# EAGLE library part MAX31855KASA+T (library MAX)
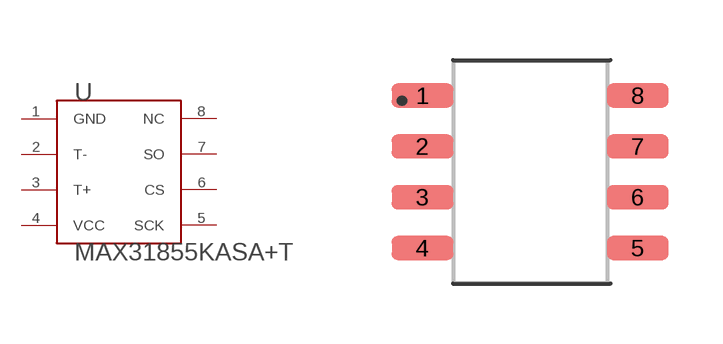
[diagram p0: symbol with the pads of MAX31855KASA+T; footprint MAX31855KASA+T]

Designator prefix -

## MAX31855KASA+T  [MAX31855KASA+T]
1  GND
2  T-
3  T+
4  VCC  pwr
5  SCK
6  CS
7  SO
8  NC  nc

## Footprint MAX31855KASA+T (pad centres in mm)
smd 1.549 x 0.61: 1 0,0; 2 0,-1.27; 3 0,-2.54; 4 0,-3.81; 5 5.385,-3.81; 6 5.385,-2.54; 7 5.385,-1.27; 8 5.385,0